# Altium footprint library irfp250n.PcbLib: 1 footprints
Each footprint in its own frame and in the unit in brackets; x right, y up, seen from the top. Pads: shape width x height; smd on the part's side, far side on the other; paste and mask are expansions set on the pad; w line width, h text height; cw(c..) or ccw(c..) is an arc to the next point about the centre after c.
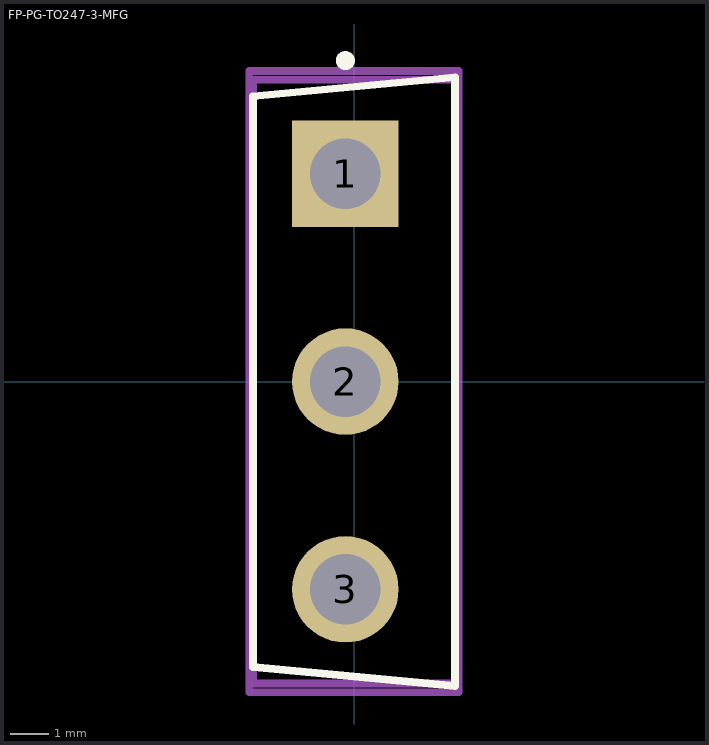
[diagram p0: the footprint, top view; thin cyan lines are the x and y axes]

## FP-PG-TO247-3-MFG [mm]
pads (3):
  rect 2.8x2.8 hole 1.85 paste-1000 mask+0: 1(-0.228,5.46)
  round 2.8 hole 1.85 paste-1000 mask+0: 2(-0.228,0) 3(-0.228,-5.46)
Top Overlay:
  circle w0.25: c-0.228,8.435 r0.125
  lines w0.2: 2.655,-8 -2.655,-7.5 -2.655,7.5 2.655,8 ; 2.655,-7.935 2.655,7.935
Mechanical 5:
  lines w0.2: -2.755,-8.162 2.755,-8.162 2.755,8.162 -2.755,8.162 -2.755,-8.162
  text ".Designator" at 0,-0.001 h1
Mechanical 13:
  lines w0.2: -2.655,-7.935 2.655,-7.935 2.655,7.935 -2.655,7.935 -2.655,-7.935
Mechanical 15:
  lines w0.2: -2.755,-8.162 2.755,-8.162 2.755,8.162 -2.755,8.162 -2.755,-8.162
Mechanical 16:
  lines w0.1: -0.5,0 0.5,0 ; 0,-0.5 0,0.5
3D body "Trans_Infineon_IRFP250NPBF_eec.STEP": height 0.25, standoff 0, extent -2.755,-8.162 2.755,8.162